# EAGLE library part IC_MCP7940M (library dp_devices)
I2C RTC/C with SRAM MCP7940M <http://www.microchip.com/wwwproducts/Devices.aspx?dDocName=en557488>
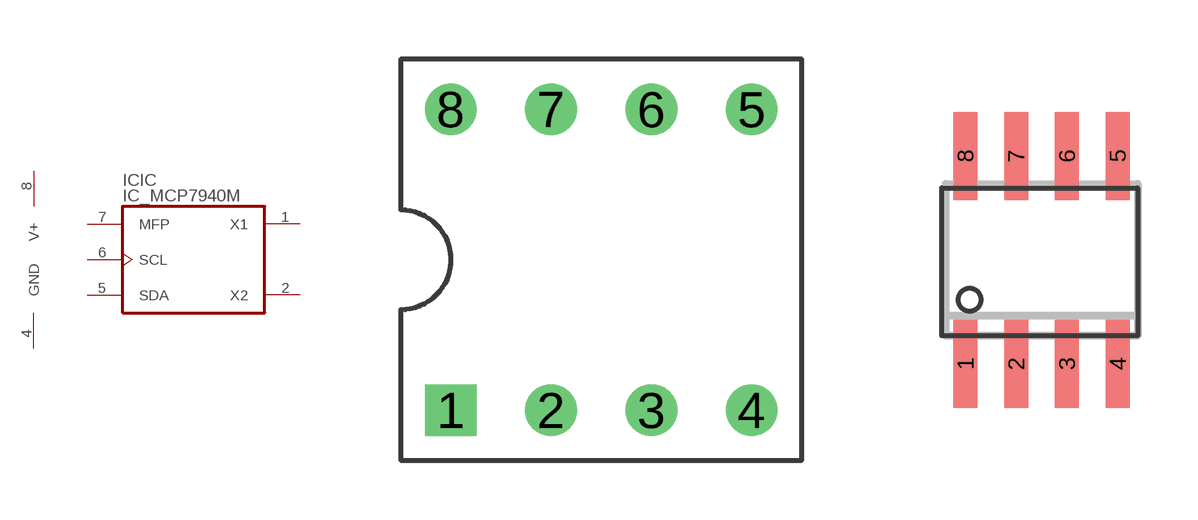
[diagram p140: symbol with the pads of DIP8; footprints DIP8, SOIC-8]

Designator prefix IC; gates IC=MCP7940M SUPPLY=SUPPLY

## IC_MCP7940M-DIP8  [DIP8]
1  IC:X1  in
2  IC:X2  out
4  SUPPLY:GND  sup
5  IC:SDA
6  IC:SCL  in
7  IC:MFP
8  SUPPLY:V+  sup

## IC_MCP7940M-SOIC8  [SOIC-8]
Pads as for DIP8

## Footprint DIP8 (pad centres in mm)
drill 0.8 square: 1 -3.81,-3.81
drill 0.8 round: 2 -1.27,-3.81; 3 1.27,-3.81; 4 3.81,-3.81; 5 3.81,3.81; 6 1.27,3.81; 7 -1.27,3.81; 8 -3.81,3.81

## Footprint SOIC-8 (pad centres in mm)
smd 0.6 x 2.2: 1 -1.905,-2.6; 2 -0.635,-2.6; 3 0.635,-2.6; 4 1.905,-2.6; 5 1.905,2.6; 6 0.635,2.6; 7 -0.635,2.6; 8 -1.905,2.6